# EAGLE library part USB-C-RECEPTACLE (library EagleLibrary)
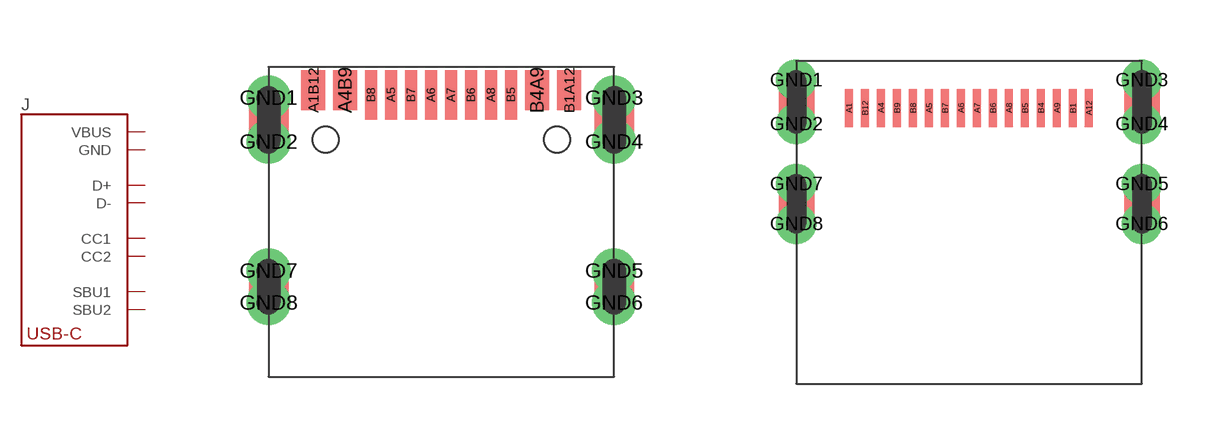
[diagram p48: symbol with the pads of GSWITCH-GT-USB-7010ASV; footprints GSWITCH-GT-USB-7010ASV, KOREANHRO-TYPE-C-31-M-08A]

Designator prefix J

## USB-C-RECEPTACLE-GSWITCH-7010ASV (MFG: G-Switch; PN: GT-USB-7010ASV)  [GSWITCH-GT-USB-7010ASV]
A1B12  GND
A4B9  VBUS
A5  CC1
A6  D+
A7  D-
A8  SBU1
B1A12  GND
B4A9  VBUS
B5  CC2
B6  D+
B7  D-
B8  SBU2
GND1  GND
GND2  GND
GND3  GND
GND4  GND
GND5  GND
GND6  GND
GND7  GND
GND8  GND

## USB-C-RECEPTACLE-KOREANHRO (MFG: Korean Hroparts Electronics; PN: TYPE-C-31-M-08A)  [KOREANHRO-TYPE-C-31-M-08A]
A1  GND
A4  VBUS
A5  CC1
A6  D+
A7  D-
A8  SBU1
A9  VBUS
A12  GND
B1  GND
B4  VBUS
B5  CC2
B6  D+
B7  D-
B8  SBU2
B9  VBUS
B12  GND
GND1  GND
GND2  GND
GND3  GND
GND4  GND
GND5  GND
GND6  GND
GND7  GND
GND8  GND

## USB-C-RECEPTACLE-GSWITCH-7030A (MFG: G-Switch; PN: GT-USB-7030A)  [GSWITCH-GT-USB-7030A]
A5  CC1
A6  D+
A7  D-
A8  SBU1
A9B4  VBUS
A12B1  GND
B5  CC2
B6  D+
B7  D-
B8  SBU2
B9A4  VBUS
B12A1  GND
GND1  GND
GND2  GND
GND3  GND
GND4  GND

## Footprint GSWITCH-GT-USB-7010ASV (pad centres in mm)
smd 0.6 x 1: A1B12 -3.2,4.92; A4B9 -2.4,4.92; B1A12 3.2,4.92; B4A9 2.4,4.92
smd 0.3 x 1.24: A5 -1.25,4.8; A6 -0.25,4.8; A7 0.25,4.8; A8 1.25,4.8; B5 1.75,4.8; B6 0.75,4.8; B7 -0.75,4.8; B8 -1.75,4.8
drill 0.6 pad 1: GND1 -4.32,4.73; GND2 -4.32,3.63; GND3 4.32,4.73; GND4 4.32,3.63; GND5 4.32,0.4; GND6 4.32,-0.4; GND7 -4.32,0.4; GND8 -4.32,-0.4
hole 0.65 at -2.89,3.68
hole 0.65 at 2.89,3.68

## Footprint KOREANHRO-TYPE-C-31-M-08A (pad centres in mm)
smd 0.2 x 0.95: A1 -3,1.125; A4 -2.2,1.125; A5 -1,1.125; A6 -0.2,1.125; A7 0.2,1.125; A8 1,1.125; A9 2.2,1.125; A12 3,1.125; B1 2.6,1.125; B4 1.8,1.125; B5 1.4,1.125; B6 0.6,1.125; B7 -0.6,1.125; B8 -1.4,1.125; B9 -1.8,1.125; B12 -2.6,1.125
drill 0.5 pad 0.9: GND1 -4.32,1.825; GND2 -4.32,0.725; GND3 4.32,1.825; GND4 4.32,0.725; GND5 4.32,-0.775; GND6 4.32,-1.775; GND7 -4.32,-0.775; GND8 -4.32,-1.775

## Footprint GSWITCH-GT-USB-7030A (pad centres in mm)
smd 0.2 x 1.3: A5 1.25,-3.85; A6 0.25,-3.85; A7 -0.25,-3.85; A8 -1.25,-3.85; B5 -1.75,-3.85; B6 -0.75,-3.85; B7 0.75,-3.85; B8 1.75,-3.85
smd 0.6 x 1.3: A9B4 -2.4,-3.85; A12B1 -3.2,-3.85; B9A4 2.4,-3.85; B12A1 3.2,-3.85
drill 0.55: GND1 -4.9,-0.775; GND2 -4.9,-1.675; GND3 4.9,-0.775; GND4 4.9,-1.675
hole 1 at -2,-2.15
hole 1 at 2,-2.15